# Altium footprint library sot23-5.PcbLib: 1 footprints
Each footprint in its own frame and in the unit in brackets; x right, y up, seen from the top. Pads: shape width x height; smd on the part's side, far side on the other; paste and mask are expansions set on the pad; w line width, h text height; cw(c..) or ccw(c..) is an arc to the next point about the centre after c.
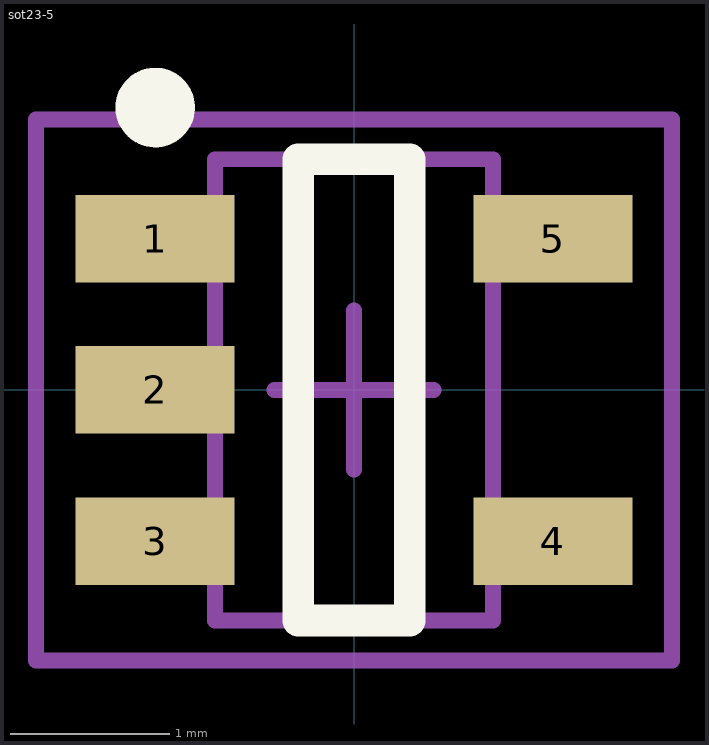
[diagram p0: the footprint, top view; thin cyan lines are the x and y axes]

## sot23-5 [mm] "SOT23, 5-Leads, Body 2.9x3.0mm (max), Pitch 0.95mm, IPC Medium Density"
height 1.1
pads (5):
  rect 1x0.55 smd: 1(-1.25,0.95) 2(-1.25,0) 3(-1.25,-0.95) 4(1.25,-0.95) 5(1.25,0.95)
Top Overlay:
  circle w0.25: c-1.25,1.775 r0.125
  lines w0.2: -0.35,-1.45 -0.35,1.45 0.35,1.45 0.35,-1.45 -0.35,-1.45
Mechanical 13:
  lines w0.1: -0.875,-1.45 0.875,-1.45 0.875,1.45 -0.875,1.45 -0.875,-1.45
Mechanical 15:
  lines w0.1: -0.5,0 0.5,0 ; 0,-0.5 0,0.5 ; -2,-1.7 2,-1.7 2,1.7 -2,1.7 -2,-1.7
3D body: height 1.1, standoff 0.05, extent -0.875,-1.45 0.875,1.45